# EAGLE library part L717HDE15PD4CH4R (library sbrio_backplane)
D-Sub High Density Connectors 15P Sz E Hi Density Pin Rear Insert 4-40 Source: Datasheet <https://datasheet.datasheetarchive.com/originals/distributors/DKDS-1/3941.pdf>
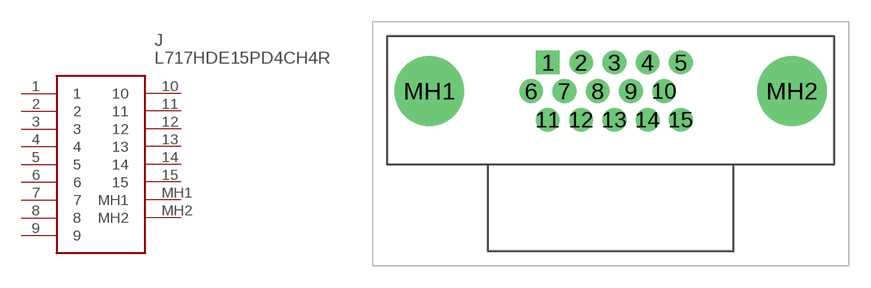
[diagram p3: symbol with the pads of L717HDE15PD4CH4R; footprint L717HDE15PD4CH4R]

Designator prefix J

## L717HDE15PD4CH4R (ARROW_PART_NUMBER: L717HDE15PD4CH4R; ARROW_PRICE-STOCK: https://www.arrow.com/en/products/l717hde15pd4ch4r/amphenol-fci; DESCRIPTION: D-Sub High Density Connectors 15P Sz E Hi Density Pin Rear Insert 4-40; HEIGHT: 12.93mm; MANUFACTURER_NAME: Amphenol; MANUFACTURER_PART_NUMBER: L717HDE15PD4CH4R; MOUSER_PART_NUMBER: 523-L717HDE15PD4CH4R; MOUSER_PRICE-STOCK: https://www.mouser.co.uk/ProductDetail/Amphenol-Commercial-Products/L717HDE15PD4CH4R?qs=L9nZOOhNkwctvQLHpK5cGw%3D%3D)  [L717HDE15PD4CH4R]
1  1
2  2
3  3
4  4
5  5
6  6
7  7
8  8
9  9
10  10
11  11
12  12
13  13
14  14
15  15
MH1  MH1
MH2  MH2

## Footprint L717HDE15PD4CH4R (pad centres in mm)
L717HDE15PD4CH4R-2
drill 1.09 pad 1.635 square: 1 -16.825,1.98
drill 1.09 pad 1.635: 2 -14.535,1.98; 3 -12.245,1.98; 4 -9.955,1.98; 5 -7.665,1.98; 6 -17.97,0; 7 -15.68,0; 8 -13.39,0; 9 -11.1,0; 10 -8.81,0; 11 -16.825,-1.98; 12 -14.535,-1.98; 13 -12.245,-1.98; 14 -9.955,-1.98; 15 -7.665,-1.98
drill 3.2 pad 4.8: MH1 -24.99,0; MH2 0,0